# EAGLE library part 6SLX9TQG144-2 (library GadgetFactory_v1)
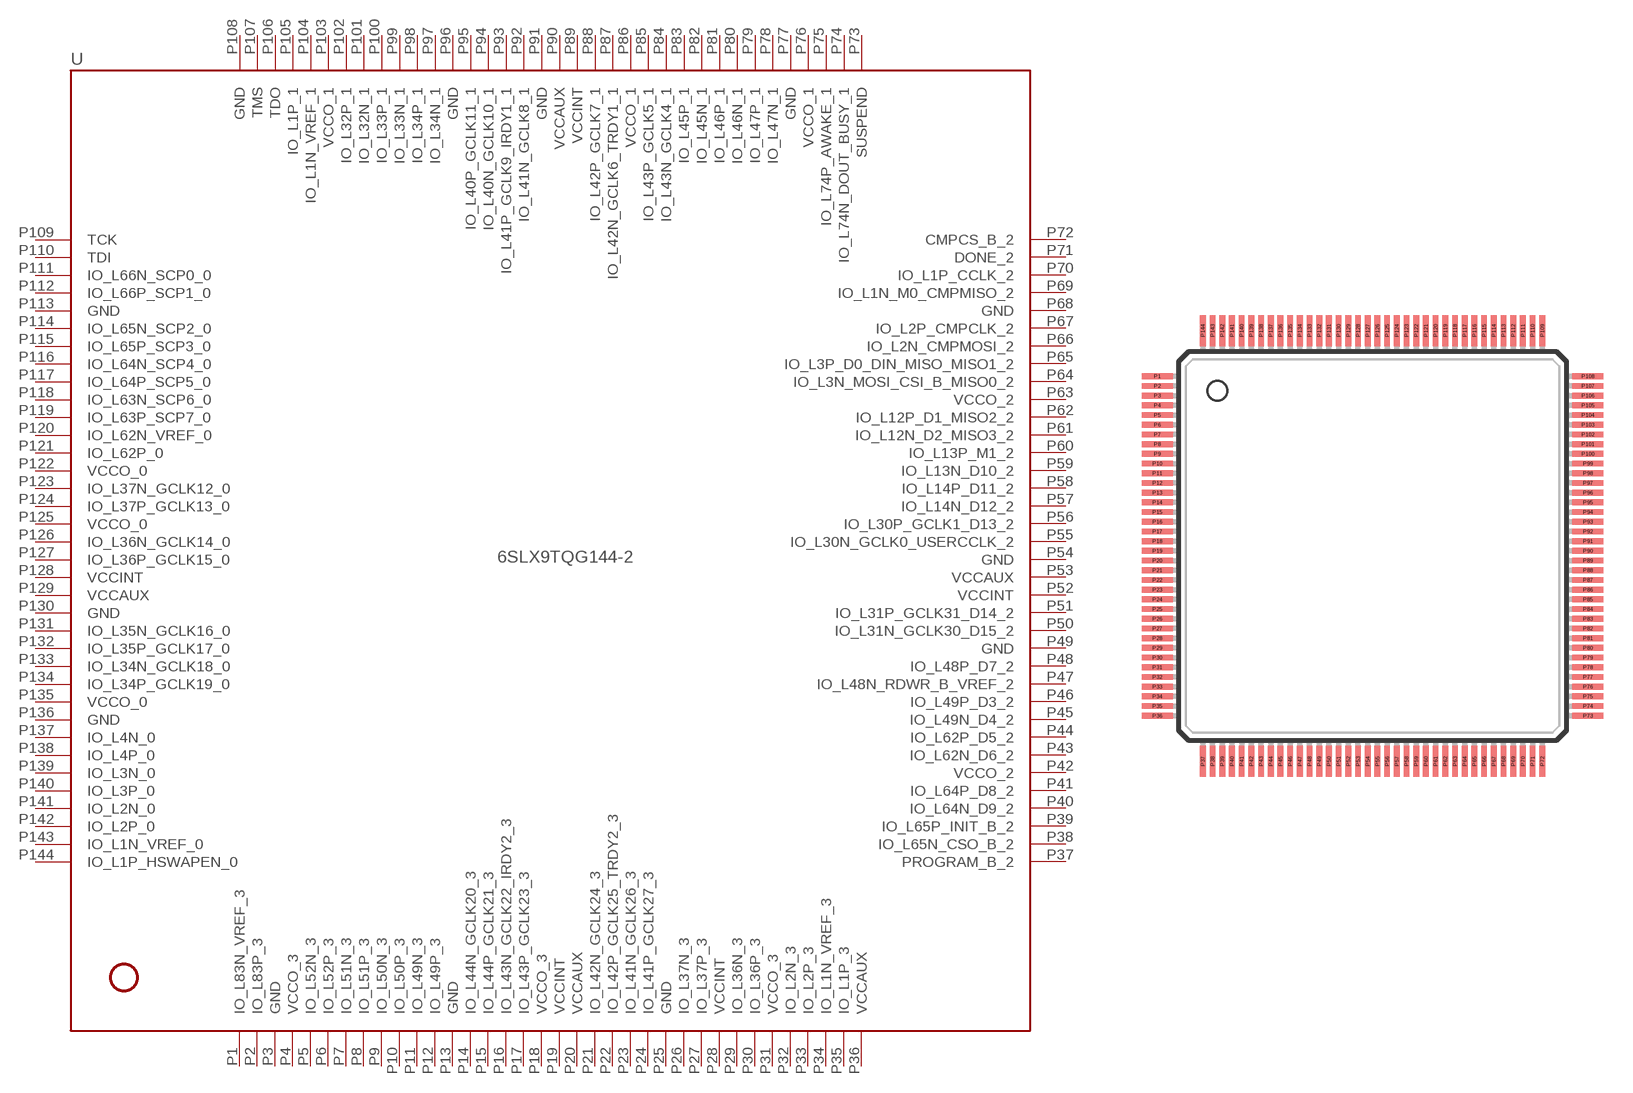
[diagram p54: symbol with the pads of TQ144; footprint TQ144]

Designator prefix U

## 6SLX9TQG144-2  [TQ144]
P1  IO_L83N_VREF_3
P2  IO_L83P_3
P3  GND  pwr
P4  VCCO_3  in
P5  IO_L52N_3
P6  IO_L52P_3
P7  IO_L51N_3
P8  IO_L51P_3
P9  IO_L50N_3
P10  IO_L50P_3
P11  IO_L49N_3
P12  IO_L49P_3
P13  GND  pwr
P14  IO_L44N_GCLK20_3
P15  IO_L44P_GCLK21_3
P16  IO_L43N_GCLK22_IRDY2_3
P17  IO_L43P_GCLK23_3
P18  VCCO_3  in
P19  VCCINT  in
P20  VCCAUX  in
P21  IO_L42N_GCLK24_3
P22  IO_L42P_GCLK25_TRDY2_3
P23  IO_L41N_GCLK26_3
P24  IO_L41P_GCLK27_3
P25  GND  pwr
P26  IO_L37N_3
P27  IO_L37P_3
P28  VCCINT  in
P29  IO_L36N_3
P30  IO_L36P_3
P31  VCCO_3  in
P32  IO_L2N_3
P33  IO_L2P_3
P34  IO_L1N_VREF_3
P35  IO_L1P_3
P36  VCCAUX  in
P37  PROGRAM_B_2  in
P38  IO_L65N_CSO_B_2
P39  IO_L65P_INIT_B_2
P40  IO_L64N_D9_2
P41  IO_L64P_D8_2
P42  VCCO_2  in
P43  IO_L62N_D6_2
P44  IO_L62P_D5_2
P45  IO_L49N_D4_2
P46  IO_L49P_D3_2
P47  IO_L48N_RDWR_B_VREF_2
P48  IO_L48P_D7_2
P49  GND  pwr
P50  IO_L31N_GCLK30_D15_2
P51  IO_L31P_GCLK31_D14_2
P52  VCCINT  in
P53  VCCAUX  in
P54  GND  pwr
P55  IO_L30N_GCLK0_USERCCLK_2
P56  IO_L30P_GCLK1_D13_2
P57  IO_L14N_D12_2
P58  IO_L14P_D11_2
P59  IO_L13N_D10_2
P60  IO_L13P_M1_2
P61  IO_L12N_D2_MISO3_2
P62  IO_L12P_D1_MISO2_2
P63  VCCO_2  in
P64  IO_L3N_MOSI_CSI_B_MISO0_2
P65  IO_L3P_D0_DIN_MISO_MISO1_2
P66  IO_L2N_CMPMOSI_2
P67  IO_L2P_CMPCLK_2
P68  GND  pwr
P69  IO_L1N_M0_CMPMISO_2
P70  IO_L1P_CCLK_2
P71  DONE_2
P72  CMPCS_B_2
P73  SUSPEND  in
P74  IO_L74N_DOUT_BUSY_1
P75  IO_L74P_AWAKE_1
P76  VCCO_1  in
P77  GND  pwr
P78  IO_L47N_1
P79  IO_L47P_1
P80  IO_L46N_1
P81  IO_L46P_1
P82  IO_L45N_1
P83  IO_L45P_1
P84  IO_L43N_GCLK4_1
P85  IO_L43P_GCLK5_1
P86  VCCO_1  in
P87  IO_L42N_GCLK6_TRDY1_1
P88  IO_L42P_GCLK7_1
P89  VCCINT  in
P90  VCCAUX  in
P91  GND  pwr
P92  IO_L41N_GCLK8_1
P93  IO_L41P_GCLK9_IRDY1_1
P94  IO_L40N_GCLK10_1
P95  IO_L40P_GCLK11_1
P96  GND  pwr
P97  IO_L34N_1
P98  IO_L34P_1
P99  IO_L33N_1
P100  IO_L33P_1
P101  IO_L32N_1
P102  IO_L32P_1
P103  VCCO_1  in
P104  IO_L1N_VREF_1
P105  IO_L1P_1
P106  TDO  out
P107  TMS  in
P108  GND  pwr
P109  TCK  in
P110  TDI  in
P111  IO_L66N_SCP0_0
P112  IO_L66P_SCP1_0
P113  GND  pwr
P114  IO_L65N_SCP2_0
P115  IO_L65P_SCP3_0
P116  IO_L64N_SCP4_0
P117  IO_L64P_SCP5_0
P118  IO_L63N_SCP6_0
P119  IO_L63P_SCP7_0
P120  IO_L62N_VREF_0
P121  IO_L62P_0
P122  VCCO_0  in
P123  IO_L37N_GCLK12_0
P124  IO_L37P_GCLK13_0
P125  VCCO_0  in
P126  IO_L36N_GCLK14_0
P127  IO_L36P_GCLK15_0
P128  VCCINT  in
P129  VCCAUX  in
P130  GND  pwr
P131  IO_L35N_GCLK16_0
P132  IO_L35P_GCLK17_0
P133  IO_L34N_GCLK18_0
P134  IO_L34P_GCLK19_0
P135  VCCO_0  in
P136  GND  pwr
P137  IO_L4N_0
P138  IO_L4P_0
P139  IO_L3N_0
P140  IO_L3P_0
P141  IO_L2N_0
P142  IO_L2P_0
P143  IO_L1N_VREF_0
P144  IO_L1P_HSWAPEN_0

## Footprint TQ144 (pad centres in mm)
TQ144 TQG144
smd 1.6 x 0.3: P1 -11.1,8.75; P2 -11.1,8.25; P3 -11.1,7.75; P4 -11.1,7.25; P5 -11.1,6.75; P6 -11.1,6.25; P7 -11.1,5.75; P8 -11.1,5.25; P9 -11.1,4.75; P10 -11.1,4.25; P11 -11.1,3.75; P12 -11.1,3.25; P13 -11.1,2.75; P14 -11.1,2.25; P15 -11.1,1.75; P16 -11.1,1.25; P17 -11.1,0.75; P18 -11.1,0.25; P19 -11.1,-0.25; P20 -11.1,-0.75; P21 -11.1,-1.25; P22 -11.1,-1.75; P23 -11.1,-2.25; P24 -11.1,-2.75; P25 -11.1,-3.25; P26 -11.1,-3.75; P27 -11.1,-4.25; P28 -11.1,-4.75; P29 -11.1,-5.25; P30 -11.1,-5.75; P31 -11.1,-6.25; P32 -11.1,-6.75; P33 -11.1,-7.25; P34 -11.1,-7.75; P35 -11.1,-8.25; P36 -11.1,-8.75; P73 11.1,-8.75; P74 11.1,-8.25; P75 11.1,-7.75; P76 11.1,-7.25; P77 11.1,-6.75; P78 11.1,-6.25; P79 11.1,-5.75; P80 11.1,-5.25; P81 11.1,-4.75; P82 11.1,-4.25; P83 11.1,-3.75; P84 11.1,-3.25; P85 11.1,-2.75; P86 11.1,-2.25; P87 11.1,-1.75; P88 11.1,-1.25; P89 11.1,-0.75; P90 11.1,-0.25; P91 11.1,0.25; P92 11.1,0.75; P93 11.1,1.25; P94 11.1,1.75; P95 11.1,2.25; P96 11.1,2.75; P97 11.1,3.25; P98 11.1,3.75; P99 11.1,4.25; P100 11.1,4.75; P101 11.1,5.25; P102 11.1,5.75; P103 11.1,6.25; P104 11.1,6.75; P105 11.1,7.25; P106 11.1,7.75; P107 11.1,8.25; P108 11.1,8.75
smd 0.3 x 1.6: P37 -8.75,-11.1; P38 -8.25,-11.1; P39 -7.75,-11.1; P40 -7.25,-11.1; P41 -6.75,-11.1; P42 -6.25,-11.1; P43 -5.75,-11.1; P44 -5.25,-11.1; P45 -4.75,-11.1; P46 -4.25,-11.1; P47 -3.75,-11.1; P48 -3.25,-11.1; P49 -2.75,-11.1; P50 -2.25,-11.1; P51 -1.75,-11.1; P52 -1.25,-11.1; P53 -0.75,-11.1; P54 -0.25,-11.1; P55 0.25,-11.1; P56 0.75,-11.1; P57 1.25,-11.1; P58 1.75,-11.1; P59 2.25,-11.1; P60 2.75,-11.1; P61 3.25,-11.1; P62 3.75,-11.1; P63 4.25,-11.1; P64 4.75,-11.1; P65 5.25,-11.1; P66 5.75,-11.1; P67 6.25,-11.1; P68 6.75,-11.1; P69 7.25,-11.1; P70 7.75,-11.1; P71 8.25,-11.1; P72 8.75,-11.1; P109 8.75,11.1; P110 8.25,11.1; P111 7.75,11.1; P112 7.25,11.1; P113 6.75,11.1; P114 6.25,11.1; P115 5.75,11.1; P116 5.25,11.1; P117 4.75,11.1; P118 4.25,11.1; P119 3.75,11.1; P120 3.25,11.1; P121 2.75,11.1; P122 2.25,11.1; P123 1.75,11.1; P124 1.25,11.1; P125 0.75,11.1; P126 0.25,11.1; P127 -0.25,11.1; P128 -0.75,11.1; P129 -1.25,11.1; P130 -1.75,11.1; P131 -2.25,11.1; P132 -2.75,11.1; P133 -3.25,11.1; P134 -3.75,11.1; P135 -4.25,11.1; P136 -4.75,11.1; P137 -5.25,11.1; P138 -5.75,11.1; P139 -6.25,11.1; P140 -6.75,11.1; P141 -7.25,11.1; P142 -7.75,11.1; P143 -8.25,11.1; P144 -8.75,11.1